# Altium footprint library rlc-th.PcbLib: 65 footprints (part 4 of 5)
Each footprint in its own frame and in the unit in brackets; x right, y up, seen from the top. Pads: shape width x height; smd on the part's side, far side on the other; paste and mask are expansions set on the pad; w line width, h text height; cw(c..) or ccw(c..) is an arc to the next point about the centre after c.
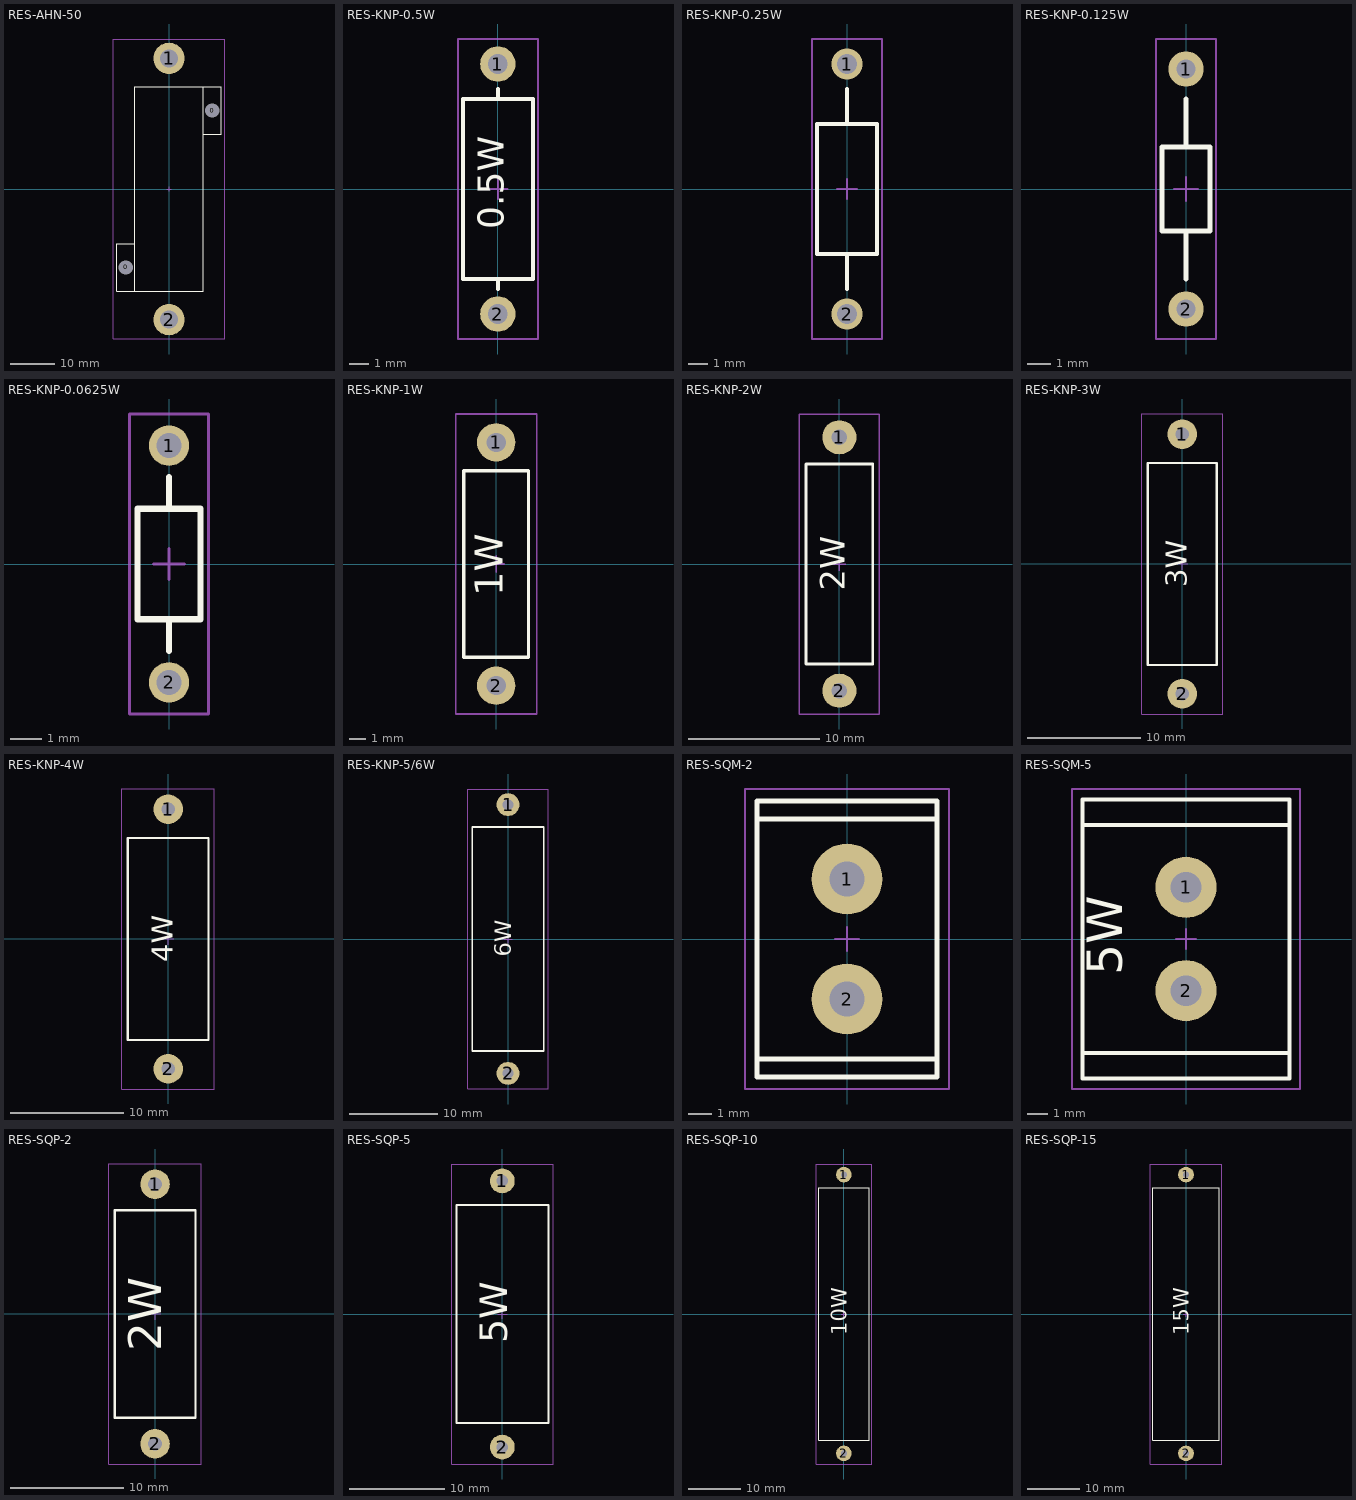
[diagram p3: the footprints below, top view; thin cyan lines are the x and y axes]

## RES-AHN-50 [mm] "QFN, 4-Leads, Body 7,50x5,00mm, Pitch 6,00mm/2,54mm, IPC Medium Density"
height 1.2
pads (4):
  round 2 hole 3.2: 0(-9.652,-17.526) 0(9.652,17.526)
  round 7 hole 4: 1(0,29.21) 2(0,-29.21)
Top Overlay:
  lines w0.2: -7.62,-12.192 -11.684,-12.192 -11.684,-22.86 -7.62,-22.86 ; 7.62,12.192 11.684,12.192 11.684,22.86 7.62,22.86 ; -7.62,-22.86 -7.62,22.86 7.62,22.86 ; -7.62,-22.86 7.62,-22.86 7.62,22.86
Mechanical 13:
  lines w0.1: -12.446,-33.528 -12.446,33.528 12.446,33.528 12.446,-33.528 -12.446,-33.528
  text ".Designator" at 1.524,-4.826 h3
Mechanical 15:
  lines w0.05: -12.446,-33.528 -12.446,33.528 12.446,33.528 12.446,-33.528 -12.446,-33.528
  lines w0.1: -0.5,0 0.5,0 ; 0,-0.5 0,0.5
3D body: height 15.5, standoff 0, extent -7.62,-22.86 7.62,22.86
3D body: height 2.5, standoff 0, extent 7.62,12.192 11.684,22.86
3D body: height 2.5, standoff 0, extent -11.684,-22.86 -7.62,-12.192

## RES-KNP-0.5W [mm] "QFN, 4-Leads, Body 7,50x5,00mm, Pitch 6,00mm/2,54mm, IPC Medium Density"
height 1.2
pads (2):
  round 1.8 hole 1: 1(0,6.35) 2(0,-6.35)
Top Overlay:
  lines w0.2: 0,-5.08 0,-4.572 ; 0,4.572 0,5.08 ; -1.778,-4.572 -1.778,4.572 1.778,4.572 1.778,-4.572 -1.778,-4.572
  text "0.5W" at 0.762,-2.032 h2.3
Mechanical 13:
  lines w0.1: -2.032,-7.62 2.032,-7.62 2.032,7.62 -2.032,7.62 -2.032,-7.62
  text ".Designator" at 1.27,-3.81 h2.4
Mechanical 15:
  lines w0.05: -2.032,-7.62 -2.032,7.62 2.032,7.62 2.032,-7.62 -2.032,-7.62
  lines w0.1: -0.5,0 0.5,0 ; 0,-0.5 0,0.5
3D body: height 3.8, standoff 0.2, extent -1.8,-4.428 1.8,4.572

## RES-KNP-0.25W [mm] "QFN, 4-Leads, Body 7,50x5,00mm, Pitch 6,00mm/2,54mm, IPC Medium Density"
height 1.2
pads (2):
  round 1.6 hole 1: 1(0,6.35) 2(0,-6.35)
Top Overlay:
  lines w0.2: 0,-5.08 0,-3.302 ; 0,3.302 0,5.08 ; -1.524,-3.302 1.524,-3.302 1.524,3.302 -1.524,3.302 -1.524,-3.302
Mechanical 13:
  lines w0.1: -1.778,-7.62 -1.778,7.62 1.778,7.62 1.778,-7.62 -1.778,-7.62
  text ".Designator" at 1.27,-3.81 h2.4
Mechanical 15:
  lines w0.05: -1.778,-7.62 1.778,-7.62 1.778,7.62 -1.778,7.62 -1.778,-7.62
  lines w0.1: -0.5,0 0.5,0 ; 0,-0.5 0,0.5
3D body: height 3.5, standoff 0.5, extent -1.464,-3.25 1.524,3.25

## RES-KNP-0.125W [mm] "QFN, 4-Leads, Body 7,50x5,00mm, Pitch 6,00mm/2,54mm, IPC Medium Density"
height 1.2
pads (2):
  round 1.5 hole 0.8: 1(0,5.08) 2(0,-5.08)
Top Overlay:
  lines w0.2: 0,-3.81 0,-1.778 ; 0,1.778 0,3.81 ; -1.016,-1.778 -1.016,1.778 1.016,1.778 1.016,-1.778 -1.016,-1.778
Mechanical 13:
  lines w0.1: -1.27,-6.35 -1.27,6.35 1.27,6.35 1.27,-6.35 -1.27,-6.35
  text ".Designator" at 0.762,-2.54 h1.6
Mechanical 15:
  lines w0.05: -1.27,-6.35 -1.27,6.35 1.27,6.35 1.27,-6.35 -1.27,-6.35
  lines w0.1: -0.5,0 0.5,0 ; 0,-0.5 0,0.5
3D body: height 2.5, standoff 0.5, extent -1.016,-1.5 0.976,1.5

## RES-KNP-0.0625W [mm] "QFN, 4-Leads, Body 7,50x5,00mm, Pitch 6,00mm/2,54mm, IPC Medium Density"
height 1.2
pads (2):
  round 1.3 hole 0.8: 1(0,3.81) 2(0,-3.81)
Top Overlay:
  lines w0.2: 0,-2.794 0,-1.778 ; 0,1.778 0,2.794 ; -1.016,-1.778 1.016,-1.778 1.016,1.778 -1.016,1.778 -1.016,-1.778
Mechanical 13:
  lines w0.1: -1.27,-4.826 1.27,-4.826 1.27,4.826 -1.27,4.826 -1.27,-4.826
  text ".Designator" at 0.762,-2.54 h1.6
Mechanical 15:
  lines w0.05: -1.27,-4.826 1.27,-4.826 1.27,4.826 -1.27,4.826 -1.27,-4.826
  lines w0.1: -0.5,0 0.5,0 ; 0,-0.5 0,0.5
3D body: height 2.5, standoff 0.5, extent -1.016,-1.5 0.976,1.5

## RES-KNP-1W [mm] "QFN, 4-Leads, Body 7,50x5,00mm, Pitch 6,00mm/2,54mm, IPC Medium Density"
height 1.2
pads (2):
  round 2.4 hole 1.2: 1(0,7.62) 2(0,-7.62)
Top Overlay:
  lines w0.2: -2.032,-5.842 2.032,-5.842 2.032,5.842 -2.032,5.842 -2.032,-5.842
  text "1W" at 1.016,-2.032 h3
Mechanical 13:
  lines w0.1: -2.54,-9.398 -2.54,9.398 2.54,9.398 2.54,-9.398 -2.54,-9.398
  text ".Designator" at 1.27,-3.81 h2.4
Mechanical 15:
  lines w0.05: -2.54,-9.398 2.54,-9.398 2.54,9.398 -2.54,9.398 -2.54,-9.398
  lines w0.1: -0.5,0 0.5,0 ; 0,-0.5 0,0.5
3D body: height 5.2, standoff 1.2, extent -2,-5.842 2,5.842

## RES-KNP-2W [mm] "QFN, 4-Leads, Body 7,50x5,00mm, Pitch 6,00mm/2,54mm, IPC Medium Density"
height 1.2
pads (2):
  round 2.6 hole 1.2: 1(0,9.652) 2(0,-9.652)
Top Overlay:
  lines w0.2: -2.54,-7.62 -2.54,7.62 2.54,7.62 2.54,-7.62 -2.54,-7.62
  text "2W" at 1.016,-2.032 h3.2
Mechanical 13:
  lines w0.1: -3.048,-11.43 -3.048,11.43 3.048,11.43 3.048,-11.43 -3.048,-11.43
  text ".Designator" at 1.27,-4.826 h3
Mechanical 15:
  lines w0.05: -3.048,-11.43 -3.048,11.43 3.048,11.43 3.048,-11.43 -3.048,-11.43
  lines w0.1: -0.5,0 0.5,0 ; 0,-0.5 0,0.5
3D body: height 5.7, standoff 0.7, extent -2.5,-7.62 2.5,7.62

## RES-KNP-3W [mm] "QFN, 4-Leads, Body 7,50x5,00mm, Pitch 6,00mm/2,54mm, IPC Medium Density"
height 1.2
pads (2):
  round 2.6 hole 1.2: 1(0,11.43) 2(0,-11.43)
Top Overlay:
  lines w0.2: -3.048,-8.89 -3.048,8.89 3.048,8.89 3.048,-8.89 -3.048,-8.89
  text "3W" at 1.016,-2.032 h3.2
Mechanical 13:
  lines w0.1: -3.556,-13.208 -3.556,13.208 3.556,13.208 3.556,-13.208 -3.556,-13.208
  text ".Designator" at 1.27,-4.826 h3
Mechanical 15:
  lines w0.05: -3.556,-13.208 -3.556,13.208 3.556,13.208 3.556,-13.208 -3.556,-13.208
  lines w0.1: -0.5,0 0.5,0 ; 0,-0.5 0,0.5
3D body: height 6.4, standoff 0.4, extent -3,-8.89 3,8.89

## RES-KNP-4W [mm] "QFN, 4-Leads, Body 7,50x5,00mm, Pitch 6,00mm/2,54mm, IPC Medium Density"
height 1.2
pads (2):
  round 2.6 hole 1.2: 1(0,11.43) 2(0,-11.43)
Top Overlay:
  lines w0.2: -3.556,-8.89 -3.556,8.89 3.556,8.89 3.556,-8.89 -3.556,-8.89
  text "4W" at 1.016,-2.032 h3.2
Mechanical 13:
  lines w0.1: -4.064,-13.208 4.064,-13.208 4.064,13.208 -4.064,13.208 -4.064,-13.208
  text ".Designator" at 1.27,-4.826 h3
Mechanical 15:
  lines w0.05: -4.064,-13.208 -4.064,13.208 4.064,13.208 4.064,-13.208 -4.064,-13.208
  lines w0.1: -0.5,0 0.5,0 ; 0,-0.5 0,0.5
3D body: height 7.6, standoff 0.4, extent -3.6,-8.89 3.6,8.89

## RES-KNP-5/6W [mm] "QFN, 4-Leads, Body 7,50x5,00mm, Pitch 6,00mm/2,54mm, IPC Medium Density"
height 1.2
pads (2):
  round 2.6 hole 1.2: 1(0,15.24) 2(0,-15.24)
Top Overlay:
  lines w0.2: -4.064,-12.7 -4.064,12.7 4.064,12.7 4.064,-12.7 -4.064,-12.7
  text "6W" at 1.016,-2.032 h3.2
Mechanical 13:
  lines w0.1: -4.572,-17.018 4.572,-17.018 4.572,17.018 -4.572,17.018 -4.572,-17.018
  text ".Designator" at 1.27,-4.826 h3
Mechanical 15:
  lines w0.05: -4.572,-17.018 -4.572,17.018 4.572,17.018 4.572,-17.018 -4.572,-17.018
  lines w0.1: -0.5,0 0.5,0 ; 0,-0.5 0,0.5
3D body: height 8.5, standoff 0.5, extent -4,-12.7 4,12.7

## RES-SQM-2 [mm] "QFN, 4-Leads, Body 7,50x5,00mm, Pitch 6,00mm/2,54mm, IPC Medium Density"
height 1.2
pads (2):
  round 3 hole 1.5: 1(0,2.54) 2(0,-2.54)
Top Overlay:
  lines w0.2: -3.81,-5.08 3.81,-5.08 ; -3.81,5.08 3.81,5.08 ; -3.81,-5.842 3.81,-5.842 3.81,5.842 -3.81,5.842 -3.81,-5.842
Mechanical 13:
  lines w0.1: -4.318,-6.35 -4.318,6.35 4.318,6.35 4.318,-6.35 -4.318,-6.35
  text ".Designator" at 1.27,-3.81 h2.4
Mechanical 15:
  lines w0.05: -4.318,-6.35 4.318,-6.35 4.318,6.35 -4.318,6.35 -4.318,-6.35
  lines w0.1: -0.5,0 0.5,0 ; 0,-0.5 0,0.5
3D body: height 20, standoff 0, extent -3.81,-5.842 3.81,5.842

## RES-SQM-5 [mm] "QFN, 4-Leads, Body 7,50x5,00mm, Pitch 6,00mm/2,54mm, IPC Medium Density"
height 1.2
pads (2):
  round 3 hole 1.5: 1(0,2.54) 2(0,-2.54)
Top Overlay:
  lines w0.2: -5.08,-5.588 5.08,-5.588 ; -5.08,5.588 5.08,5.588 ; -5.08,-6.858 -5.08,6.858 5.08,6.858 5.08,-6.858 -5.08,-6.858
  text "5W" at -2.54,-1.778 h3
Mechanical 13:
  lines w0.1: -5.588,-7.366 5.588,-7.366 5.588,7.366 -5.588,7.366 -5.588,-7.366
  text ".Designator" at 1.27,-4.826 h3
Mechanical 15:
  lines w0.05: -5.588,-7.366 -5.588,7.366 5.588,7.366 5.588,-7.366 -5.588,-7.366
  lines w0.1: -0.5,0 0.5,0 ; 0,-0.5 0,0.5
3D body: height 25, standoff 0, extent -5.08,-6.858 5.08,6.858

## RES-SQP-2 [mm] "QFN, 4-Leads, Body 7,50x5,00mm, Pitch 6,00mm/2,54mm, IPC Medium Density"
height 1.2
pads (2):
  round 2.6 hole 1.2: 1(0,11.43) 2(0,-11.43)
Top Overlay:
  lines w0.2: -3.556,-9.144 3.556,-9.144 3.556,9.144 -3.556,9.144 -3.556,-9.144
  text "2W" at 1.524,-3.302 h5
Mechanical 13:
  lines w0.1: -4.064,-13.208 -4.064,13.208 4.064,13.208 4.064,-13.208 -4.064,-13.208
  text ".Designator" at -1.27,4.826 h3
Mechanical 15:
  lines w0.05: -4.064,-13.208 4.064,-13.208 4.064,13.208 -4.064,13.208 -4.064,-13.208
  lines w0.1: -0.5,0 0.5,0 ; 0,-0.5 0,0.5
3D body: height 7, standoff 0, extent -3.556,-9.144 3.556,9.144

## RES-SQP-5 [mm] "QFN, 4-Leads, Body 7,50x5,00mm, Pitch 6,00mm/2,54mm, IPC Medium Density"
height 1.2
pads (2):
  round 2.6 hole 1.2: 1(0,13.97) 2(0,-13.97)
Top Overlay:
  lines w0.2: -4.826,-11.43 -4.826,11.43 4.826,11.43 4.826,-11.43 -4.826,-11.43
  text "5W" at 1.524,-3.048 h5
Mechanical 13:
  lines w0.1: -5.334,-15.748 5.334,-15.748 5.334,15.748 -5.334,15.748 -5.334,-15.748
  text ".Designator" at -1.27,4.826 h3
Mechanical 15:
  lines w0.05: -5.334,-15.748 -5.334,15.748 5.334,15.748 5.334,-15.748 -5.334,-15.748
  lines w0.1: -0.5,0 0.5,0 ; 0,-0.5 0,0.5
3D body: height 9, standoff 0, extent -4.826,-11.43 4.826,11.43

## RES-SQP-10 [mm] "QFN, 4-Leads, Body 7,50x5,00mm, Pitch 6,00mm/2,54mm, IPC Medium Density"
height 1.2
pads (2):
  round 3 hole 1.2: 1(0,26.67) 2(0,-26.67)
Top Overlay:
  lines w0.2: -4.826,-24.13 -4.826,24.13 4.826,24.13 4.826,-24.13 -4.826,-24.13
  text "10W" at 1.524,-4.064 h5
Mechanical 13:
  lines w0.1: -5.334,-28.702 5.334,-28.702 5.334,28.702 -5.334,28.702 -5.334,-28.702
  text ".Designator" at -1.27,4.826 h3
Mechanical 15:
  lines w0.05: -5.334,-28.702 -5.334,28.702 5.334,28.702 5.334,-28.702 -5.334,-28.702
  lines w0.1: -0.5,0 0.5,0 ; 0,-0.5 0,0.5
3D body: height 9, standoff 0, extent -4.826,-24.13 4.826,24.13

## RES-SQP-15 [mm] "QFN, 4-Leads, Body 7,50x5,00mm, Pitch 6,00mm/2,54mm, IPC Medium Density"
height 1.2
pads (2):
  round 3 hole 1.2: 1(0,26.67) 2(0,-26.67)
Top Overlay:
  lines w0.2: -6.35,-24.13 -6.35,24.13 6.35,24.13 6.35,-24.13 -6.35,-24.13
  text "15W" at 1.524,-4.064 h5
Mechanical 13:
  lines w0.1: -6.858,-28.702 6.858,-28.702 6.858,28.702 -6.858,28.702 -6.858,-28.702
  text ".Designator" at -1.27,4.826 h3
Mechanical 15:
  lines w0.05: -6.858,-28.702 -6.858,28.702 6.858,28.702 6.858,-28.702 -6.858,-28.702
  lines w0.1: -0.5,0 0.5,0 ; 0,-0.5 0,0.5
3D body: height 12, standoff 0, extent -6.35,-24.13 6.35,24.13